# Altium schematic symbol library SCH - POWER - LINEAR VREG - TI LM1084IT-3.3.SchLib: 1 symbol
Pins are listed as number, name and electrical type; pins without a type are passive.

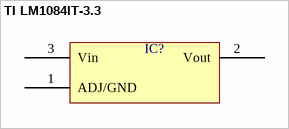
[diagram p0: symbol TI LM1084IT-3.3]

## TI LM1084IT-3.3
designator IC?  (value not drawn)
pins: 1 ADJ/GND, 2 Vout, 3 Vin